# Altium schematic symbol library Choke.SchLib: 1 symbol
Pins are listed as number, name and electrical type; pins without a type are passive.

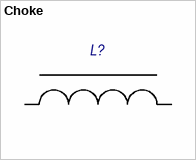
[diagram p0: symbol Choke]

## Choke
designator L?
pins: 1, 2